# Altium schematic symbol library BA033CC0FP-E2.SchLib: 1 symbol
Pins are listed as number, name and electrical type; pins without a type are passive.

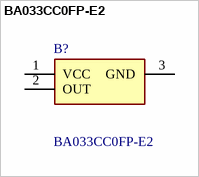
[diagram p0: symbol BA033CC0FP-E2]

## BA033CC0FP-E2
designator B?
LDO regulator,3.3V,1A,TO252; Manufacturer_Name: ROHM Semiconductor; Manufacturer_Part_Number: BA033CC0FP-E2; Mouser Part Number: 755-BA033CC0FP-E2; Mouser Price/Stock: https://www.mouser.co.uk/ProductDetail/ROHM-Semiconductor/BA033CC0FP-E2?qs=4kLU8WoGk0vZtk7EcED04A%3D%3D; Arrow Part Number: BA033CC0FP-E2; Arrow Price/Stock: https://www.arrow.com/en/products/ba033cc0fp-e2/rohm-semiconductor?region=nac; Mouser Testing Part Number: *; Mouser Testing Price/Stock: *; Datasheet Link: http://rohmfs.rohm.com/en/products/databook/datasheet/ic/power/linear_regulator/baxxdd0-e.pdf
footprint ROHM_TO-252-3
pins: 1 VCC, 2 OUT, 3 GND